# Altium integrated library Diode_Lumex_SSL-LX5093GD_eec.IntLib: 1 symbol
Pins are listed as number, name and electrical type; pins without a type are passive.

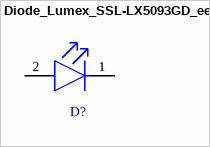
[diagram p0: symbol Diode_Lumex_SSL-LX5093GD_eec]

## Diode_Lumex_SSL-LX5093GD_eec
designator D?
DIODE LED GRN DIFF 5MM ROUND T/H; Part Number: SSL-LX5093GD; Manufacturer: Lumex; Current: 20mA; Voltage - Forward (Vf) (Typ): 2.2V; Viewing Angle: 60°; helpURL: https://upverter.com/upn/revision/3e2d87dde4bc0270/; ComponentLink2Description: Datasheet; Temperature: -40°C to +85°C; Package: RADIAL; Supplier 2: Mouser; Price: 0.134141512812; Supplier 1: Digi-Key; ComponentLink1URL: https://upverter.com/upn/revision/3e2d87dde4bc0270/; Supplier Part Number 2: 696-SSL-LX5093GD; Supplier Part Number 1: 67-1098-ND; ComponentLink1Description: Upverter; ComponentLink2URL: https://upverter.com/datasheet/272633366bbf9b7ac85ecec6850b6be956700e69.pdf; RoHS: TRUE; Mouser Part Number: 696-SSL-LX5093GD; Temperature Range High: +85°C; Digikey Description: DIODE LED GRN DIFF 5MM ROUND T/H; Digikey Part Number: 67-1098-ND; Lead Free: yes; Temperature Range Low: -40°C
footprint Lumex_SSL-LX5093GD_0
pins: 1 C, 2 A